# Altium footprint library eecs5x.PcbLib: 161 footprints (part 8 of 11)
Each footprint in its own frame and in the unit in brackets; x right, y up, seen from the top. Pads: shape width x height; smd on the part's side, far side on the other; paste and mask are expansions set on the pad; w line width, h text height; cw(c..) or ccw(c..) is an arc to the next point about the centre after c.
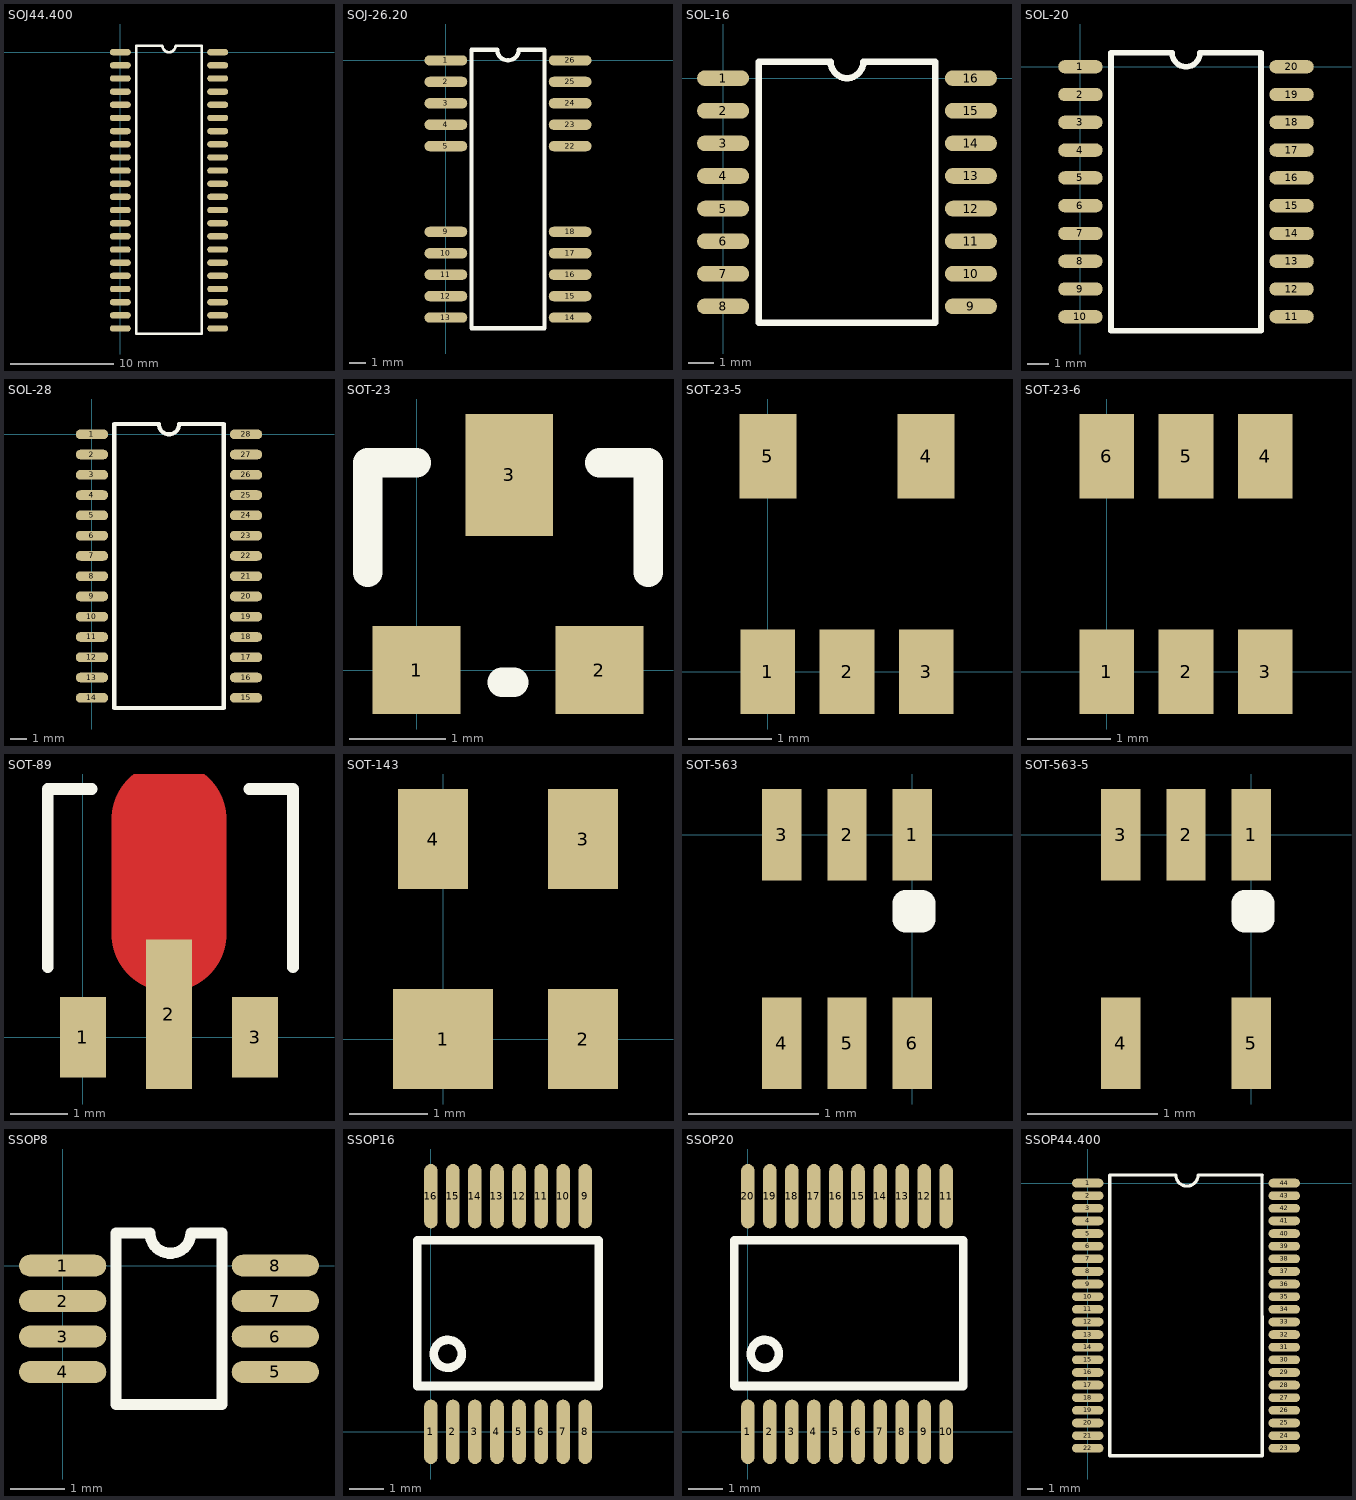
[diagram p7: the footprints below, top view; thin cyan lines are the x and y axes]

## SOJ44.400 [mil]
pads (44):
  oval 80x24 smd: 1(0,0) 2(0,-50) 3(0,-100) 4(0,-150) 5(0,-200) 6(0,-250) 7(0,-300) 8(0,-350) 9(0,-400) 10(0,-450) 11(0,-500) 12(0,-550) 13(0,-600) 14(0,-650) 15(0,-700) 16(0,-750) 17(0,-800) 18(0,-850) 19(0,-900) 20(0,-950) 21(0,-1000) 22(0,-1050) 23(370,-1050) 24(370,-1000) 25(370,-950) 26(370,-900) 27(370,-850) 28(370,-800) 29(370,-750) 30(370,-700) 31(370,-650) 32(370,-600) 33(370,-550) 34(370,-500) 35(370,-450) 36(370,-400) 37(370,-350) 38(370,-300) 39(370,-250) 40(370,-200) 41(370,-150) 42(370,-100) 43(370,-50) 44(370,0)
Top Overlay:
  lines w10: 60,-1070 60,25 160,25 ccw(c185,25) 210,25 310,25 310,-1070 60,-1070

## SOJ-26.20 [mil]
pads (20):
  oval 100x24 smd: 1(0,0) 2(0,-50) 3(0,-100) 4(0,-150) 5(0,-200) 9(0,-400) 10(0,-450) 11(0,-500) 12(0,-550) 13(0,-600) 14(290,-600) 15(290,-550) 16(290,-500) 17(290,-450) 18(290,-400) 22(290,-200) 23(290,-150) 24(290,-100) 25(290,-50) 26(290,0)
Top Overlay:
  lines w10: 60,-625 60,25 120,25 ccw(c145,25) 170,25 230,25 230,-625 60,-625

## SOL-16 [mil]
pads (16):
  oval 80x24 smd: 1(0,0) 2(0,-50) 3(0,-100) 4(0,-150) 5(0,-200) 6(0,-250) 7(0,-300) 8(0,-350) 9(380,-350) 10(380,-300) 11(380,-250) 12(380,-200) 13(380,-150) 14(380,-100) 15(380,-50) 16(380,0)
Top Overlay:
  lines w10: 55,-375 55,25 165,25 ccw(c190,25) 215,25 325,25 325,-375 55,-375

## SOL-20 [mil]
pads (20):
  oval 80x24 smd: 1(0,0) 2(0,-50) 3(0,-100) 4(0,-150) 5(0,-200) 6(0,-250) 7(0,-300) 8(0,-350) 9(0,-400) 10(0,-450) 11(380,-450) 12(380,-400) 13(380,-350) 14(380,-300) 15(380,-250) 16(380,-200) 17(380,-150) 18(380,-100) 19(380,-50) 20(380,0)
Top Overlay:
  lines w10: 55,-475 55,25 165,25 ccw(c190,25) 215,25 325,25 325,-475 55,-475

## SOL-28 [mil]
pads (28):
  oval 80x24 smd: 1(0,0) 2(0,-50) 3(0,-100) 4(0,-150) 5(0,-200) 6(0,-250) 7(0,-300) 8(0,-350) 9(0,-400) 10(0,-450) 11(0,-500) 12(0,-550) 13(0,-600) 14(0,-650) 15(380,-650) 16(380,-600) 17(380,-550) 18(380,-500) 19(380,-450) 20(380,-400) 21(380,-350) 22(380,-300) 23(380,-250) 24(380,-200) 25(380,-150) 26(380,-100) 27(380,-50) 28(380,0)
Top Overlay:
  lines w10: 55,-675 55,25 165,25 ccw(c190,25) 215,25 325,25 325,-675 55,-675

## SOT-23 [mil]
pads (3):
  rect 36x36 smd: 1(0,0) 2(75,0)
  rect 36x50 smd: 3(38,80)
Top Overlay:
  lines w12: -20,40 -20,85 0,85 ; 35,-5 40,-5 ; 75,85 95,85 95,40

## SOT-23-5 [mil]
pads (5):
  rect 26x40 smd: 1(0,0) 2(37.5,0) 3(75,0)
  rect 27x40 smd: 4(75,102) 5(0,102)

## SOT-23-6 [mil]
pads (6):
  rect 26x40 smd: 1(0,0) 2(37.5,0) 3(75,0) 4(75,102) 5(37.5,102) 6(0,102)

## SOT-89 [mm]
pads (3):
  rect 0.8x1.4 smd: 1(0,0) 3(3,0)
  rect 0.8x2.6 smd: 2(1.5,0.4)
Top Layer:
  lines w2: 1.5,1.8 1.5,3.8
Top Overlay:
  lines w0.203: -0.608,1.216 -0.608,4.318 0.154,4.318 ; 2.894,4.318 3.656,4.318 3.656,1.216

## SOT-143 [mil]
pads (4):
  rect 50x50 smd: 1(0,0)
  rect 35x50 smd: 2(70,0) 3(70,100) 4(-5,100)

## SOT-563 [mm]
pads (6):
  rect 0.3x0.7 smd: 1(0,0) 2(-0.5,0) 3(-1,0) 4(-1,-1.6) 5(-0.5,-1.6) 6(0,-1.6)
Top Overlay:
  lines w0.203: -0.05,-0.65 -0.05,-0.525 0.075,-0.525 0.075,-0.65 -0.05,-0.65

## SOT-563-5 [mm]
pads (5):
  rect 0.3x0.7 smd: 1(0,0) 2(-0.5,0) 3(-1,0) 4(-1,-1.6) 5(0,-1.6)
Top Overlay:
  lines w0.203: -0.05,-0.65 -0.05,-0.525 0.075,-0.525 0.075,-0.65 -0.05,-0.65

## SSOP8 [mm]
pads (8):
  oval 1.6x0.4 smd: 1(0,0) 2(0,-0.65) 3(0,-1.3) 4(0,-1.95) 5(3.9,-1.95) 6(3.9,-1.3) 7(3.9,-0.65) 8(3.9,0)
Top Overlay:
  lines w0.203: 0.975,-2.55 0.975,0.6 1.6,0.6 ccw(c1.975,0.6) 2.35,0.6 2.925,0.6 2.925,-2.55 0.975,-2.55

## SSOP16 [mm]
pads (16):
  oval 0.4x1.9 smd: 1(0,0) 2(0.65,0) 3(1.3,0) 4(1.95,0) 5(2.6,0) 6(3.25,0) 7(3.9,0) 8(4.55,0) 9(4.55,6.95) 10(3.9,6.95) 11(3.25,6.95) 12(2.6,6.95) 13(1.95,6.95) 14(1.3,6.95) 15(0.65,6.95) 16(0,6.95)
Top Overlay:
  circle w0.254: c0.5,2.3 r0.412
  lines w0.254: -0.4,1.35 -0.4,5.65 4.95,5.65 4.95,1.35 -0.4,1.35

## SSOP20 [mm]
pads (20):
  oval 0.4x1.9 smd: 1(0,0) 2(0.65,0) 3(1.3,0) 4(1.95,0) 5(2.6,0) 6(3.25,0) 7(3.9,0) 8(4.55,0) 9(5.2,0) 10(5.85,0) 11(5.85,6.95) 12(5.2,6.95) 13(4.55,6.95) 14(3.9,6.95) 15(3.25,6.95) 16(2.6,6.95) 17(1.95,6.95) 18(1.3,6.95) 19(0.65,6.95) 20(0,6.95)
Top Overlay:
  circle w0.254: c0.5,2.3 r0.412
  lines w0.254: -0.4,1.35 -0.4,5.65 6.35,5.65 6.35,1.35 -0.4,1.35

## SSOP44.400 [mm]
pads (44):
  oval 2x0.55 smd: 1(0,0) 2(0,-0.8) 3(0,-1.6) 4(0,-2.4) 5(0,-3.2) 6(0,-4) 7(0,-4.8) 8(0,-5.6) 9(0,-6.4) 10(0,-7.2) 11(0,-8) 12(0,-8.8) 13(0,-9.6) 14(0,-10.4) 15(0,-11.2) 16(0,-12) 17(0,-12.8) 18(0,-13.6) 19(0,-14.4) 20(0,-15.2) 21(0,-16) 22(0,-16.8) 23(12.448,-16.8) 24(12.448,-16) 25(12.448,-15.2) 26(12.448,-14.4) 27(12.448,-13.6) 28(12.448,-12.8) 29(12.448,-12) 30(12.448,-11.2) 31(12.448,-10.4) 32(12.448,-9.6) 33(12.448,-8.8) 34(12.448,-8) 35(12.448,-7.2) 36(12.448,-6.4) 37(12.448,-5.6) 38(12.448,-4.8) 39(12.448,-4) 40(12.448,-3.2) 41(12.448,-2.4) 42(12.448,-1.6) 43(12.448,-0.8) 44(12.448,0)
Top Overlay:
  lines w0.203: 11.048,0.5 11.049,-17.272 1.397,-17.272 1.397,0.508 5.585,0.508 ccw(c6.285,0.508) 6.985,0.508 11.049,0.508